# EAGLE library part 3X4 (library Drone_Connectors)
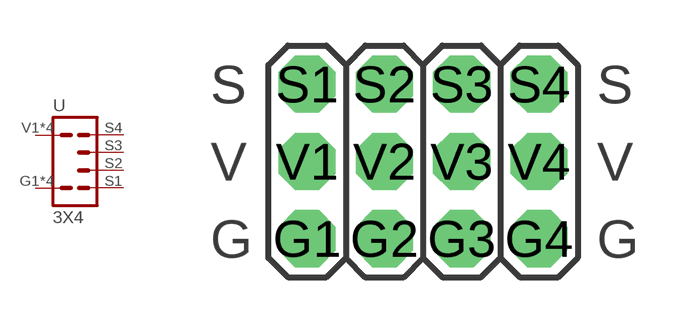
[diagram p0: symbol with the pads of 3X4; footprint 3X4]

Designator prefix -

## 3X4  [3X4]
G1  G  pwr
G2  G  pwr
G3  G  pwr
G4  G  pwr
S1  S1
S2  S2
S3  S3
S4  S4
V1  V  pwr
V2  V  pwr
V3  V  pwr
V4  V  pwr

## Footprint 3X4 (pad centres in mm)
drill 1.016 pad 1.88 octagon: G1 -3.81,-2.54; G2 -1.27,-2.54; G3 1.27,-2.54; G4 3.81,-2.54; S1 -3.81,2.54; S2 -1.27,2.54; S3 1.27,2.54; S4 3.81,2.54; V1 -3.81,0; V2 -1.27,0; V3 1.27,0; V4 3.81,0